# Altium schematic symbol library SCHA5B0200.Schlib: 1 symbol
Pins are listed as number, name and electrical type; pins without a type are passive.

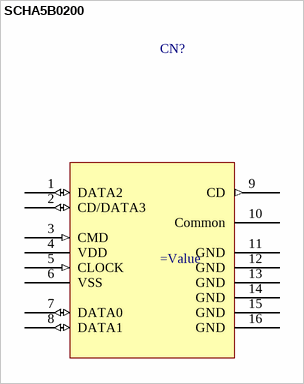
[diagram p0: symbol SCHA5B0200]

## SCHA5B0200
designator CN?
=Description
pins: 1 DATA2 (io), 2 CD/DATA3 (io), 3 CMD (in), 4 VDD (power), 5 CLOCK (in), 6 VSS (power), 7 DATA0 (io), 8 DATA1 (io), 9 CD (out), 10 Common, 11 GND (power), 12 GND (power), 13 GND (power), 14 GND (power), 15 GND (power), 16 GND (power)